# EAGLE library part OLIMEX_CONNECTORS_SATA-PWA-07 (library A20-OLinuXino-Lime2_Rev_C)
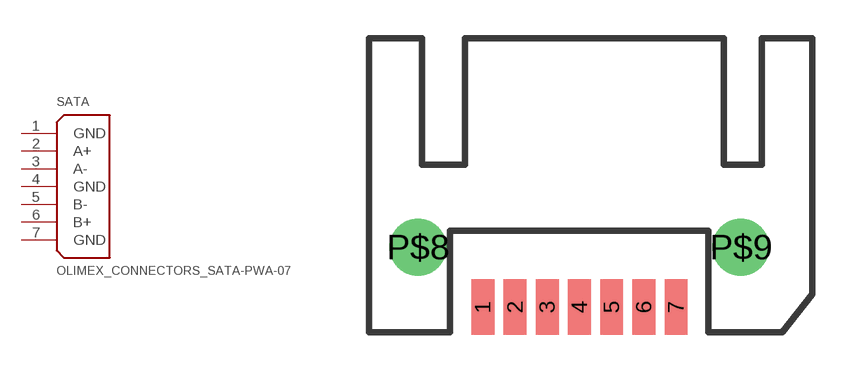
[diagram p3: symbol with the pads of OLIMEX_CONNECTORS_SATA-PWA-07; footprint OLIMEX_CONNECTORS_SATA-PWA-07]

Designator prefix SATA

## OLIMEX_CONNECTORS_SATA-PWA-07  [OLIMEX_CONNECTORS_SATA-PWA-07]
1  GND  pwr
2  A+
3  A-
4  GND  pwr
5  B-
6  B+
7  GND  pwr

## Footprint OLIMEX_CONNECTORS_SATA-PWA-07 (pad centres in mm)
Translated over the X-axis -8,75mm and -5,80mm over Y-axis by Penko to ba as is in the real tray.
smd 0.9 x 2.2: 1 -4.25,-4.8; 2 -2.98,-4.8; 3 -1.71,-4.8; 4 -0.44,-4.8; 5 0.83,-4.8; 6 2.1,-4.8; 7 3.37,-4.8
drill 1.5: P$8 -6.81,-2.44; P$9 5.93,-2.44